# EAGLE library part L80-M39 (library L80-M39)
Check prices <https://pricing.snapeda.com/parts/L80-M39/Quectel/view-part?ref=eda>
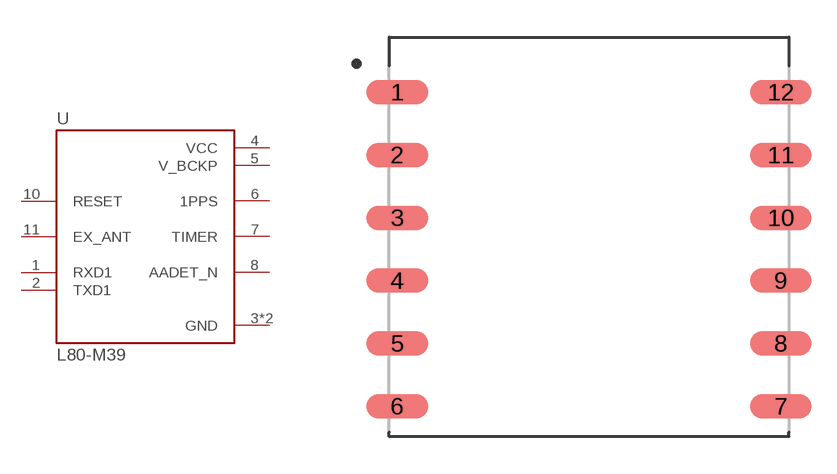
[diagram p0: symbol with the pads of XCVR_L80-M39; footprint XCVR_L80-M39]

Designator prefix U

## L80-M39 (Availability: In Stock; Description: L80 is an ultra compact GPS POT (Patch on Top) module with an embedded 15.0mm × 15.0mm × 4.0mm patch antenna.; MF: Quectel; MP: L80-M39; Package: SMD-12 Quectel; Price: None)  [XCVR_L80-M39]
1  RXD1  in
2  TXD1  out
3  GND  pwr
4  VCC  pwr
5  V_BCKP  pwr
6  1PPS  out
7  TIMER  out
8  AADET_N
10  RESET  in
11  EX_ANT  in
12  GND  pwr

## Footprint XCVR_L80-M39 (pad centres in mm)
smd 2.5 x 1: 1 -7.75,6.35; 2 -7.75,3.81; 3 -7.75,1.27; 4 -7.75,-1.27; 5 -7.75,-3.81; 6 -7.75,-6.35; 7 7.75,-6.35; 8 7.75,-3.81; 9 7.75,-1.27; 10 7.75,1.27; 11 7.75,3.81; 12 7.75,6.35